# Altium schematic symbol library Altium_Resistor_Array.SchLib: 6 symbols
Pins are listed as number, name and electrical type; pins without a type are passive.

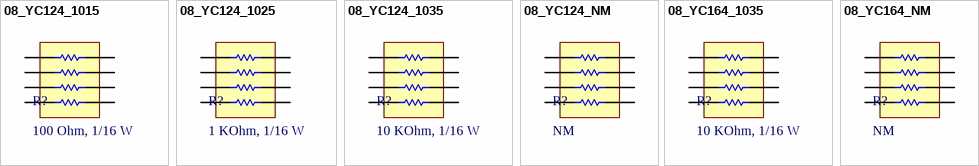
[diagram p0: symbols 08_YC124_1015 to 08_YC164_NM]

## 08_YC124_1015
designator R?, comment 100 Ohm, 1/16 W
RES ARRAY, YC124, 100 Ohm, 1/16 W; Manufacturer: YAGEO; Manufacturer Part Number: YC124-JR-07100RL; Number of Resistors: 4; Rated Power: 1/16 W; Resistance: 100 Ohm; Tolerance: +/-5%; Number of Pins: 8; Supplier 1 URL: https://www.mouser.vn/ProductDetail/YAGEO/YC124-JR-07100RL?qs=o9qB%2F%252BVTi4VkyZ2yOpwQEA%3D%3D; Supplier 2 URL: https://www.digikey.com/en/products/detail/yageo/yc124-jr-07100rl/1004973; Supplier 3 URL: N/A; Value: 100 Ohm, 1/16 W; Packaging: Tape and Reel; Supplier 1: Mouser; Supplier 1 Part Number: 603-YC124-JR-07100RL; Supplier 2: Digi-Key; Supplier 2 Part Number: YC124J-100TR-ND; Supplier 3: thegioiic; Supplier 3 Part Number: N/A; ComponentLink1Description: Datasheet; ComponentLink1URL: https://www.mouser.com/datasheet/2/447/PYu_YC_TC_group_51_RoHS_L_9-3003033.pdf; Mount: SMD/SMT; Operating Temperature Max: + 85 C; Operating Temperature Min: - 40 C; Package / Case: 0804 (YC124); LCSC Part #: C326873
footprint YC124 (Chip Array, ConvexS, 8-Leads, Pitch 0.50mm,  Body 2.00x1.00mm,  IPC Low Density)
pins: 1, 2 1, 3 1, 4 1, 5 2, 6 2, 7 2, 8 2

## 08_YC124_1025
designator R?, comment 1 KOhm, 1/16 W
RES ARRAY, YC124, 1 KOhm, 1/16 W; Manufacturer: YAGEO; Manufacturer Part Number: YC124-JR-071KL; Number of Resistors: 4; Rated Power: 1/16 W; Resistance: 1 KOhm; Tolerance: +/-5%; Number of Pins: 8; Supplier 1 URL: https://www.mouser.com/ProductDetail/YAGEO/YC124-JR-071KL?qs=o9qB%2F%252BVTi4Ve70N85Ngk6Q%3D%3D; Supplier 2 URL: N/A; Supplier 3 URL: N/A; Value: 1 KOhm, 1/16 W; Packaging: Tape and Reel; Supplier 1: Mouser; Supplier 1 Part Number: 603-YC124-JR-071KL; Supplier 2: Digi-Key; Supplier 2 Part Number: N/A; Supplier 3: thegioiic; Supplier 3 Part Number: N/A; ComponentLink1Description: Datasheet; ComponentLink1URL: https://www.mouser.com/datasheet/2/447/PYu_YC_TC_group_51_RoHS_L_9-3003033.pdf; Mount: SMD/SMT; Operating Temperature Max: + 85 C; Operating Temperature Min: - 40 C; Package / Case: 0804 (YC124); LCSC Part #: C326869
footprint YC124 (Chip Array, ConvexS, 8-Leads, Pitch 0.50mm,  Body 2.00x1.00mm,  IPC Low Density)
pins: 1, 2 1, 3 1, 4 1, 5 2, 6 2, 7 2, 8 2

## 08_YC124_1035
designator R?, comment 10 KOhm, 1/16 W
RES ARRAY, YC124, 10 KOhm, 1/16 W; Manufacturer: YAGEO; Manufacturer Part Number: YC124-JR-0710KL; Number of Resistors: 4; Rated Power: 1/16 W; Resistance: 10 KOhm; Tolerance: +/-5%; Number of Pins: 8; Supplier 1 URL: https://www.mouser.com/ProductDetail/YAGEO/YC124-JR-0710KL?qs=o9qB%2F%252BVTi4UUU%2FolE1vUew%3D%3D; Supplier 2 URL: N/A; Supplier 3 URL: N/A; Value: 10 KOhm, 1/16 W; Packaging: Tape and Reel; Supplier 1: Mouser; Supplier 1 Part Number: 603-YC124-JR-0710KL; Supplier 2: Digi-Key; Supplier 2 Part Number: N/A; Supplier 3: thegioiic; Supplier 3 Part Number: N/A; ComponentLink1Description: Datasheet; ComponentLink1URL: https://www.mouser.com/datasheet/2/447/PYu_YC_TC_group_51_RoHS_L_9-3003033.pdf; Mount: SMD/SMT; Operating Temperature Max: + 85 C; Operating Temperature Min: - 40 C; Package / Case: 0804 (YC124); LCSC Part #: C326872
footprint YC124 (Chip Array, ConvexS, 8-Leads, Pitch 0.50mm,  Body 2.00x1.00mm,  IPC Low Density)
pins: 1, 2 1, 3 1, 4 1, 5 2, 6 2, 7 2, 8 2

## 08_YC124_NM
designator R?, comment NM
RES ARRAY, YC124, NM; Number of Resistors: 4; Number of Pins: 8; Rated Power: N/A; Resistance: NM; Supplier 1 URL: N/A; Supplier 2 URL: N/A; Supplier 3 URL: N/A; Value: NM; Packaging: Tape and Reel; Supplier 1: Mouser; Supplier 1 Part Number: N/A; Supplier 2: Digi-Key; Supplier 2 Part Number: N/A; Supplier 3: thegioiic; Supplier 3 Part Number: N/A; Tolerance: N/A; Manufacturer: N/A; Manufacturer Part Number: N/A; ComponentLink1Description: Datasheet; ComponentLink1URL: https://www.mouser.com/datasheet/2/447/PYu_YC_TC_group_51_RoHS_L_9-3003033.pdf; Mount: SMD/SMT; Operating Temperature Max: N/A; Operating Temperature Min: N/A; Package / Case: 0804 (YC124); LCSC Part #: N/A
footprint YC124 (Chip Array, ConvexS, 8-Leads, Pitch 0.50mm,  Body 2.00x1.00mm,  IPC Low Density)
pins: 1, 2 1, 3 1, 4 1, 5 2, 6 2, 7 2, 8 2

## 08_YC164_1035
designator R?, comment 10 KOhm, 1/16 W
RES ARRAY, YC164, 10 KOhm, 1/16 W; Manufacturer: YAGEO; Manufacturer Part Number: YC164-JR-0710KL; Number of Resistors: 4; Rated Power: 1/16 W; Resistance: 10 KOhm; Tolerance: +/-5%; Number of Pins: 8; Supplier 1 URL: https://www.mouser.com/ProductDetail/YAGEO/YC164-JR-0710KL?qs=o9qB%2F%252BVTi4X8QX5P05nKXA%3D%3D; Supplier 2 URL: N/A; Supplier 3 URL: N/A; Value: 10 KOhm, 1/16 W; Packaging: Tape and Reel; Supplier 1: Mouser; Supplier 1 Part Number: 603-YC164-JR-0710KL; Supplier 2: Digi-Key; Supplier 2 Part Number: N/A; Supplier 3: thegioiic; Supplier 3 Part Number: N/A; ComponentLink1Description: Datasheet; ComponentLink1URL: https://www.mouser.com/datasheet/2/447/PYu_YC_TC_group_51_RoHS_L_9-3003033.pdf; Mount: SMD/SMT; Operating Temperature Max: + 85 C; Operating Temperature Min: - 40 C; Package / Case: 1206 (YC164); LCSC Part #: C107374
footprint YC164 (Chip Array, ConvexS, 8-Leads, Pitch 0.80mm,  Body 3.20x1.60mm,  IPC Low Density)
pins: 1, 2 1, 3 1, 4 1, 5 2, 6 2, 7 2, 8 2

## 08_YC164_NM
designator R?, comment NM
RES ARRAY, YC164, NM; Number of Resistors: 4; Number of Pins: 8; Rated Power: N/A; Resistance: N/A; Supplier 1 URL: N/A; Supplier 2 URL: N/A; Supplier 3 URL: N/A; Value: NM; Packaging: Tape and Reel; Supplier 1: Mouser; Supplier 1 Part Number: N/A; Supplier 2: Digi-Key; Supplier 2 Part Number: N/A; Supplier 3: thegioiic; Supplier 3 Part Number: N/A; Tolerance: N/A; Manufacturer: N/A; Manufacturer Part Number: N/A; ComponentLink1Description: Datasheet; ComponentLink1URL: https://www.mouser.com/datasheet/2/447/PYu_YC_TC_group_51_RoHS_L_9-3003033.pdf; Mount: SMD/SMT; Operating Temperature Max: N/A; Operating Temperature Min: N/A; Package / Case: 1206 (YC164); LCSC Part #: N/A
footprint YC164 (Chip Array, ConvexS, 8-Leads, Pitch 0.80mm,  Body 3.20x1.60mm,  IPC Low Density)
pins: 1, 2 1, 3 1, 4 1, 5 2, 6 2, 7 2, 8 2